# EAGLE library part STM660{0,1} (library kmod-testing)
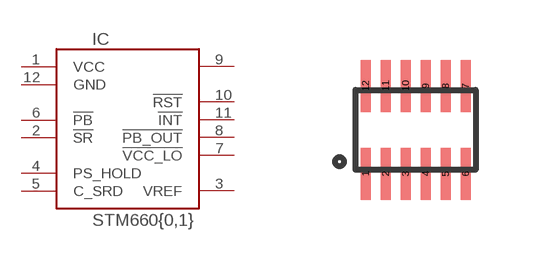
[diagram p15: symbol with the pads of TDFN12; footprint TDFN12]

Designator prefix IC

## STM660{0,1}  [TDFN12]
1  VCC
2  !SR
3  VREF
4  PS_HOLD
5  C_SRD
6  !PB
7  !VCC_LO
8  !PB_OUT
9  EN/!EN
10  !RST
11  !INT
12  GND

## Footprint TDFN12 (pad centres in mm)
TDFN12 package: 2x3mm, 0.5mm-pitch Created for the STM6600/6601: http://www.st.com/web/en/resource/technical/document/datasheet/CD00226957.pdf http://www.digikey.com/product-search/en?vendor=0&keywords=stm6601d&stock=1 Took their recommended footprint and lengthened the pads for hand soldering.
smd 0.25 x 1.3: 1 -1.25,-1.1; 2 -0.75,-1.1; 3 -0.25,-1.1; 4 0.25,-1.1; 5 0.75,-1.1; 6 1.25,-1.1; 7 1.25,1.1; 8 0.75,1.1; 9 0.25,1.1; 10 -0.25,1.1; 11 -0.75,1.1; 12 -1.25,1.1